# Altium footprint library lib-Connectors_pcb.PcbLib: 19 footprints (part 1 of 2)
Each footprint in its own frame and in the unit in brackets; x right, y up, seen from the top. Pads: shape width x height; smd on the part's side, far side on the other; paste and mask are expansions set on the pad; w line width, h text height; cw(c..) or ccw(c..) is an arc to the next point about the centre after c.
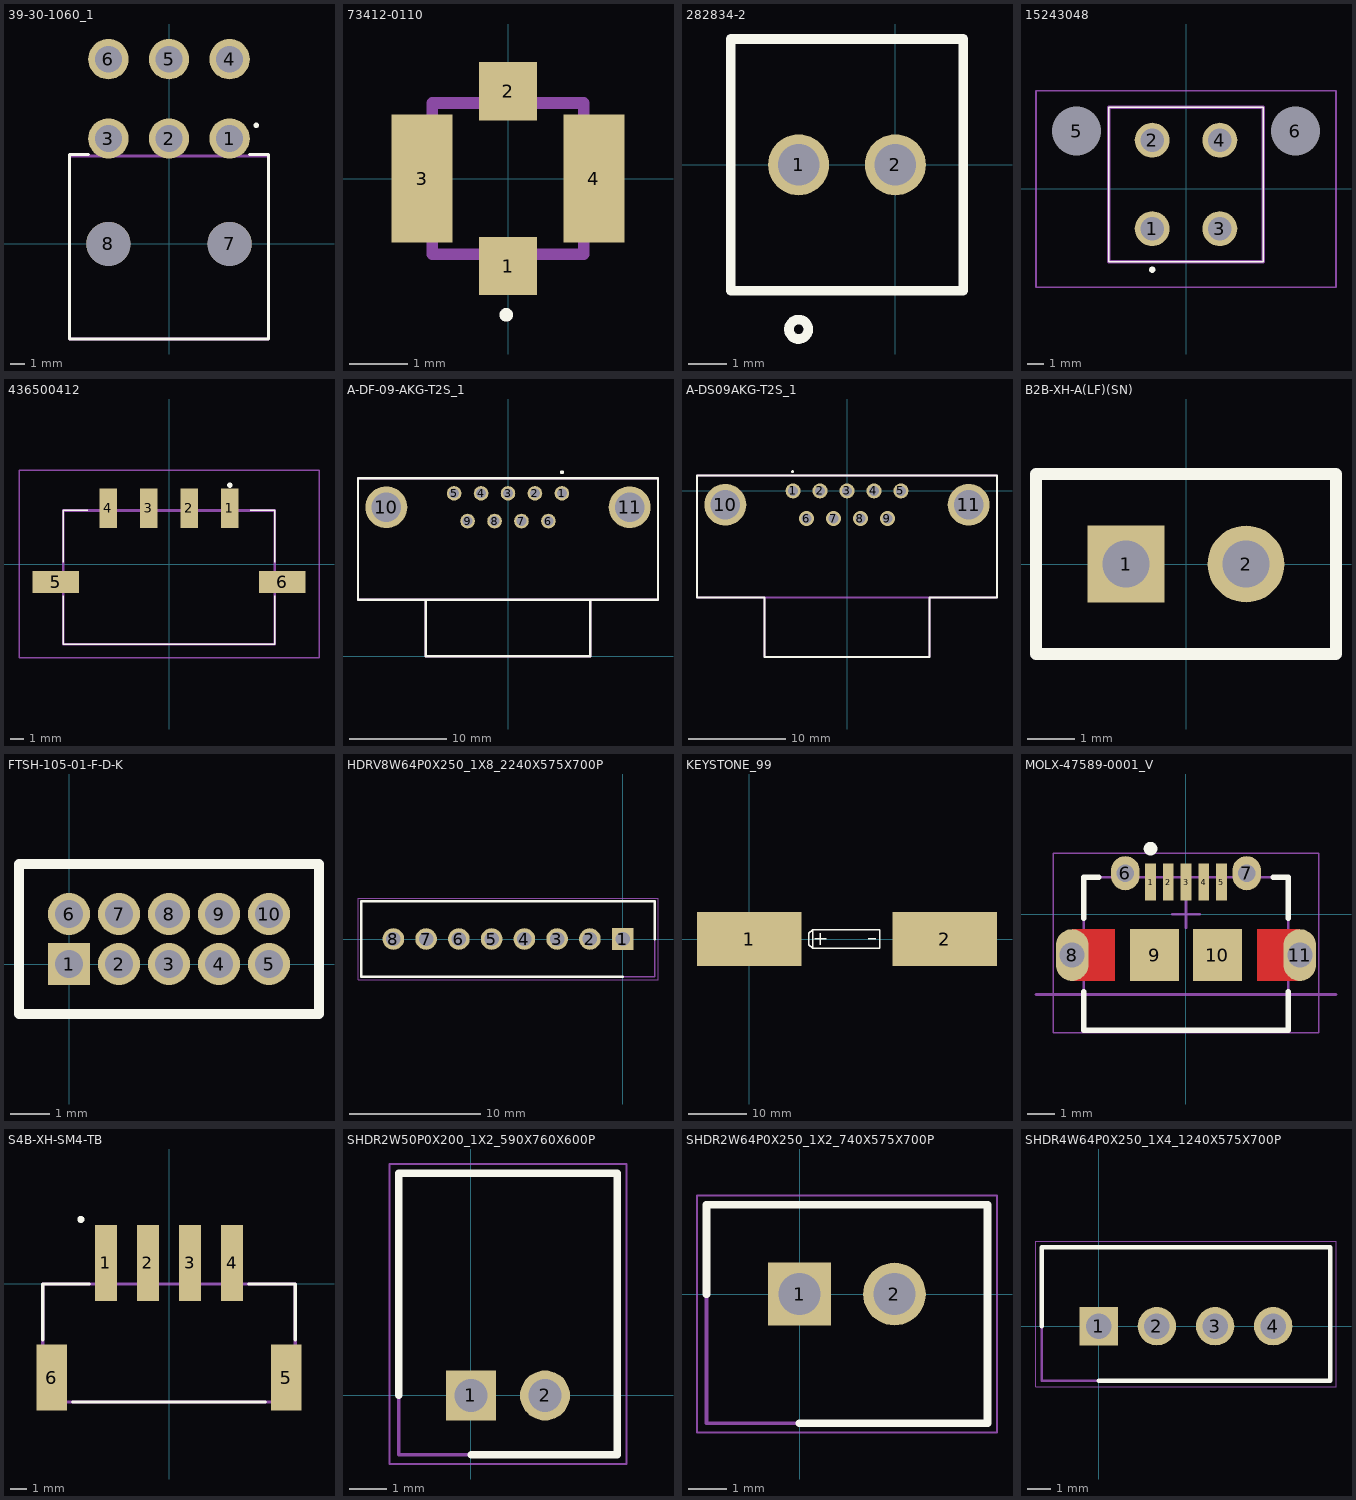
[diagram p0: the footprints below, top view; thin cyan lines are the x and y axes]

## 39-30-1060_1 [mm]
pads (8):
  round 2.8 hole 1.85: 1(4.2,7.3) 2(0,7.3) 3(-4.2,7.3) 4(4.2,12.8) 5(0,12.8) 6(-4.2,12.8)
  round 3.05 hole 3.05 unplated: 7(4.2,0) 8(-4.2,0)
Top Overlay:
  circle w0.2: c6.048,8.213 r0.092
  lines w0.2: -5.588,6.2 -6.9,6.2 -6.9,-6.6 6.9,-6.6 6.9,6.2 5.588,6.2
Mechanical 15:
  lines w0.2: -6.9,-6.6 6.9,-6.6 6.9,6.096 -6.9,6.096 -6.9,-6.6

## 73412-0110 [mm]
pads (4):
  rect 1x1 smd: 1(0,-1.5) 2(0,1.5)
  rect 1.05x2.2 smd: 3(-1.475,0) 4(1.475,0)
Top Overlay:
  circle w0.2: c-0.03,-2.338 r0.017
Mechanical 15:
  lines w0.2: -1.3,-1.3 1.3,-1.3 1.3,1.3 -1.3,1.3 -1.3,-1.3

## 282834-2 [mil]
pads (2):
  round 63 hole 43: 1(-100,0) 2(0,0)
Top Overlay:
  circle w10: c-100,-170 r10
  lines w10: -170,-130 -170,130 70,130 70,-130 -170,-130
3D body: height 393.7, standoff 0, extent -170,-130 70,130

## 15243048 [mm]
pads (6):
  round 2.175 hole 1.45: 1(-2.1,-2.468) 2(-2.1,3.032) 3(2.1,-2.468) 4(2.1,3.032)
  round 1.525 hole 3.05 unplated: 5(-6.8,3.593) 6(6.8,3.593)
Top Overlay:
  lines w0.1: -4.8,-4.518 -4.8,5.082 4.8,5.082 4.8,-4.518 -4.8,-4.518
  lines w0.2: -2.2,-5.018 ccw(c-2.1,-5.018) -2,-5.018 ccw(c-2.1,-5.018) -2.2,-5.018
Mechanical 15:
  lines w0.2: -4.8,-4.518 -4.8,5.082 4.8,5.082 4.8,-4.518 -4.8,-4.518
Mechanical 20:
  lines w0.1: -9.325,-6.118 -9.325,6.117 9.325,6.117 9.325,-6.118 -9.325,-6.118

## 436500412 [mm]
pads (6):
  rect 1.27x2.92 smd: 1(4.5,4.135) 2(1.5,4.135) 3(-1.5,4.135) 4(-4.5,4.135)
  rect 3.43x1.65 smd: 5(-8.385,-1.335) 6(8.385,-1.335)
Top Overlay:
  lines w0.1: -7.825,-2.365 -7.825,-5.935 7.825,-5.935 7.825,-2.365 ; -7.825,0.135 -7.825,3.965 -6,3.965 ; 6,3.965 7.825,3.965 7.825,0.135
  lines w0.2: 4.4,5.835 ccw(c4.5,5.835) 4.6,5.835 ccw(c4.5,5.835) 4.4,5.835
Mechanical 15:
  lines w0.2: -7.825,-5.935 -7.825,3.965 7.825,3.965 7.825,-5.935 -7.825,-5.935
Mechanical 20:
  lines w0.1: -11.1,-6.935 -11.1,6.935 11.1,6.935 11.1,-6.935 -11.1,-6.935

## A-DF-09-AKG-T2S_1 [mm]
pads (11):
  round 1.5 hole 1: 1(5.54,16.74) 2(2.77,16.74) 3(0,16.74) 4(-2.77,16.74) 5(-5.54,16.74) 6(4.155,13.9) 7(1.385,13.9) 8(-1.385,13.9) 9(-4.155,13.9)
  round 4.3 hole 3.05: 10(-12.495,15.32) 11(12.495,15.32)
Top Overlay:
  circle w0.254: c5.546,18.904 r0.071
  lines w0.254: -8.46,5.8 -8.46,0 8.46,0 8.46,5.8 ; -15.405,5.8 -15.405,18.3 15.405,18.3 15.405,5.8 -15.405,5.8
Mechanical 15:
  lines w0.254: -8.46,5.8 -8.46,0 8.46,0 8.46,5.8 ; -15.405,5.8 15.405,5.8 15.405,18.3 -15.405,18.3 -15.405,5.8

## A-DS09AKG-T2S_1 [mm]
pads (11):
  round 1.55 hole 1: 1(-5.54,0) 2(-2.77,0) 3(0,0) 4(2.77,0) 5(5.54,0) 6(-4.155,-2.84) 7(-1.385,-2.84) 8(1.385,-2.84) 9(4.155,-2.84)
  round 4.3 hole 3.05: 10(-12.495,-1.42) 11(12.495,-1.42)
Top Overlay:
  circle w0.2: c-5.591,1.97 r0.052
  lines w0.2: -15.405,-10.94 -15.405,1.56 15.405,1.56 15.405,-10.94 8.46,-10.94 8.46,-17.04 -8.46,-17.04 -8.46,-10.94 -15.405,-10.94
Mechanical 15:
  lines w0.2: -8.46,-10.94 -8.46,-17.04 8.46,-17.04 8.46,-10.94 ; -15.405,-10.94 -15.405,1.56 15.405,1.56 15.405,-10.94 -15.405,-10.94

## B2B-XH-A(LF)(SN) [mm] "B2B-XH-A(LF)(SN)"
pads (2):
  rect 1.625x1.625 hole 1: 1(-1.27,0)
  round 1.625 hole 1: 2(1.27,0)
Top Overlay:
  lines w0.254: -3.175,-1.905 -3.175,1.905 3.175,1.905 3.175,-1.905 -3.175,-1.905

## FTSH-105-01-F-D-K [mil] "FTSH-105-01-F-D-K"
pads (10):
  rect 42x42 hole 28: 1(0,0)
  round 42 hole 28: 2(50,0) 3(100,0) 4(150,0) 5(200,0) 6(0,50) 7(50,50) 8(100,50) 9(150,50) 10(200,50)
Top Overlay:
  lines w10: -50,-50 -50,100 250,100 250,-50 -50,-50
3D body: height 126, standoff 0, extent -50,-50 250,100

## HDRV8W64P0X250_1X8_2240X575X700P [mm]
pads (8):
  rect 1.65x1.65 / inner round 1.65 / far side rect 1.65x1.65 hole 1.1: 1(0,0)
  round 1.65 hole 1.1: 2(-2.5,0) 3(-5,0) 4(-7.5,0) 5(-10,0) 6(-12.5,0) 7(-15,0) 8(-17.5,0)
Top Overlay:
  lines w0.2: 0,-2.875 -19.95,-2.875 -19.95,2.875 2.45,2.875 2.45,0
Mechanical 15:
  lines w0.1: -19.95,-2.875 2.45,-2.875 2.45,2.875 -19.95,2.875 -19.95,-2.875
Mechanical 20:
  lines w0.05: -20.2,-3.125 2.7,-3.125 2.7,3.125 -20.2,3.125 -20.2,-3.125

## KEYSTONE_99 [mil]
pads (2):
  rect 703x360 smd paste-900: 1(0,0) 2(1312,0)
Top Overlay:
  lines w10: 440,0.5 515,0.5 ; 475,-37.5 475,37.5 ; 800,0.5 850,0.5 ; 425,-62.5 425,62.5 ; 425,-62.5 875,-62.5 875,62.5 425,62.5 ; 425,-62.5 400,-37.5 400,37.5 425,62.5
3D body: height 300, standoff 0, extent -340,-180 -300,180
3D body: height 50, standoff 0, extent -300,-180 340,180
3D body: height 300, standoff 0, extent 1620,-180 1660,180
3D body: height 50, standoff 0, extent 980,-180 1620,180

## MOLX-47589-0001_V [mm] "SMD, 5-Leads, Body 7.5x5.6mm, Pitch 0.65mm"
height 2.65
pads (11):
  rect 0.4x1.35 smd: 1(-1.3,1.175) 2(-0.65,1.175) 3(0,1.175) 4(0.65,1.175) 5(1.3,1.175)
  oval 1.05x1.25 hole 0.65: 6(-2.225,1.5) 7(2.225,1.5)
  oval 1.2x1.9 hole 0.914: 8(-4.175,-1.5) 11(4.175,-1.5)
  rect 1.8x1.9 smd: 9(-1.15,-1.5) 10(1.15,-1.5)
Top Layer:
  rectangle: 2.6,-2.45 4.175,-0.55
  region: -2.6,-0.55 -4.175,-0.55 -4.175,-2.45 -2.6,-2.45
Top Overlay:
  circle w0.25: c-1.3,2.4 r0.125
  lines w0.2: -3.75,-2.85 -3.75,-4.25 3.75,-4.25 3.75,-2.85 ; -3.75,-0.15 -3.75,1.35 -3.2,1.35 ; 3.2,1.35 3.75,1.35 3.75,-0.15
Mechanical 1:
  lines w0.1: -5.5,-2.95 5.5,-2.95
  text "PCB EDGE" at 5.7,-2.5 h1
Mechanical 13:
  lines w0.1: -3.75,-4.25 3.75,-4.25 3.75,1.35 -3.75,1.35 -3.75,-4.25
Mechanical 15:
  lines w0.05: -4.875,-4.35 -4.875,2.225 4.875,2.225 4.875,-4.35 -4.875,-4.35
  lines w0.1: -0.5,0 0.5,0 ; 0,-0.5 0,0.5
3D body "475890001.stp": height 2.74, standoff -0.57, extent -4.325,-4.25 4.325,1.644

## S4B-XH-SM4-TB [mm]
pads (6):
  rect 1.3x4.5 smd: 1(-3.75,1.25) 2(-1.25,1.25) 3(1.25,1.25) 4(3.75,1.25)
  rect 1.8x3.9 smd: 5(6.95,-5.55) 6(-6.95,-5.55)
Top Overlay:
  circle w0.2: c-5.229,3.828 r0.111
  lines w0.2: -7.5,-3.3 -7.5,0 -4.74,0 ; -5.7,-7 5.7,-7 ; 4.74,0 7.5,0 7.5,-3.3
Mechanical 15:
  lines w0.2: -7.5,-7 7.5,-7 7.5,0 -7.5,0 -7.5,-7
3D body: height 6, standoff 0, extent -7.62,-7.112 7.62,0
3D body: height 10, standoff 0, extent -7.62,-7.112 -7.62,-7.112
3D body: height 4, standoff 0, extent -5.08,-12.7 5.08,-7.112

## SHDR2W50P0X200_1X2_590X760X600P [mm]
pads (2):
  rect 1.35x1.35 / inner round 1.35 / far side rect 1.35x1.35 hole 0.9: 1(0,0)
  round 1.35 hole 0.9: 2(2,0)
Top Overlay:
  lines w0.2: -1.95,0 -1.95,6 3.95,6 3.95,-1.6 0,-1.6
Mechanical 15:
  lines w0.1: -1.95,-1.6 3.95,-1.6 3.95,6 -1.95,6 -1.95,-1.6
Mechanical 20:
  lines w0.05: -2.2,-1.85 4.2,-1.85 4.2,6.25 -2.2,6.25 -2.2,-1.85

## SHDR2W64P0X250_1X2_740X575X700P [mm]
pads (2):
  rect 1.65x1.65 / inner round 1.65 / far side rect 1.65x1.65 hole 1.1: 1(0,0)
  round 1.65 hole 1.1: 2(2.5,0)
Top Overlay:
  lines w0.2: -2.45,0 -2.45,2.35 4.95,2.35 4.95,-3.4 0,-3.4
Mechanical 15:
  lines w0.1: -2.45,-3.4 4.95,-3.4 4.95,2.35 -2.45,2.35 -2.45,-3.4
Mechanical 20:
  lines w0.05: -2.7,-3.65 5.2,-3.65 5.2,2.6 -2.7,2.6 -2.7,-3.65

## SHDR4W64P0X250_1X4_1240X575X700P [mm]
pads (4):
  rect 1.65x1.65 / inner round 1.65 / far side rect 1.65x1.65 hole 1.1: 1(0,0)
  round 1.65 hole 1.1: 2(2.5,0) 3(5,0) 4(7.5,0)
Top Overlay:
  lines w0.2: -2.45,0 -2.45,3.4 9.95,3.4 9.95,-2.35 0,-2.35
Mechanical 15:
  lines w0.1: -2.45,-2.35 9.95,-2.35 9.95,3.4 -2.45,3.4 -2.45,-2.35
Mechanical 20:
  lines w0.05: -2.7,-2.6 10.2,-2.6 10.2,3.65 -2.7,3.65 -2.7,-2.6